# Altium footprint library CAT16-F4.PcbLib: 1 footprints
Each footprint in its own frame and in the unit in brackets; x right, y up, seen from the top. Pads: shape width x height; smd on the part's side, far side on the other; paste and mask are expansions set on the pad; w line width, h text height; cw(c..) or ccw(c..) is an arc to the next point about the centre after c.
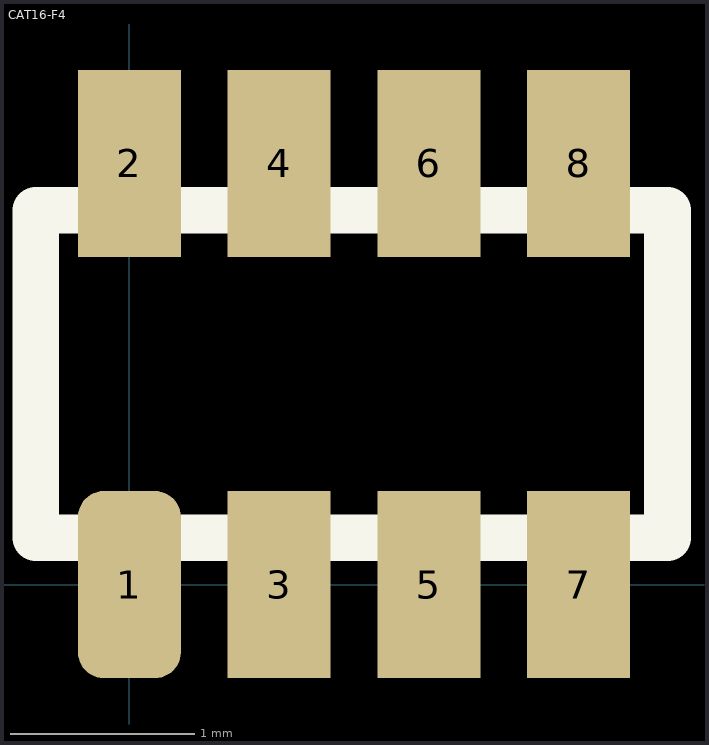
[diagram p0: the footprint, top view; thin cyan lines are the x and y axes]

## CAT16-F4 [mil]
pads (8):
  rrect50% 22x40 smd: 1(0,0)
  rect 22x40 smd: 2(0,90) 3(32,0) 4(32,90) 5(64,0) 6(64,90) 7(96,0) 8(96,90)
Top Overlay:
  lines w10: -20,10 115,10 115,80 -20,80 -20,10
3D body: height 25, standoff 0, extent -20,10 115,80